# Altium footprint library SOIC.PcbLib: 4 footprints
Each footprint in its own frame and in the unit in brackets; x right, y up, seen from the top. Pads: shape width x height; smd on the part's side, far side on the other; paste and mask are expansions set on the pad; w line width, h text height; cw(c..) or ccw(c..) is an arc to the next point about the centre after c.
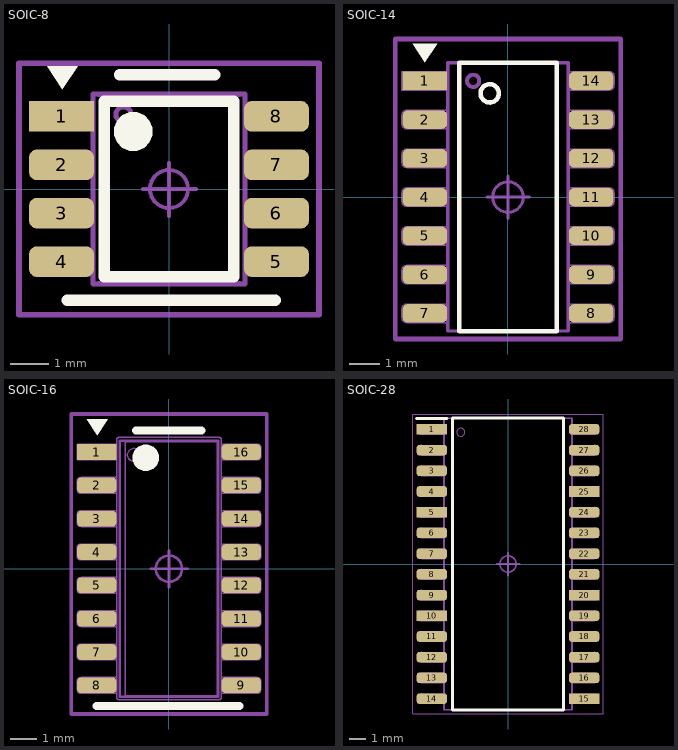
[diagram p0: the footprints below, top view; thin cyan lines are the x and y axes]

## SOIC-8 [mm]
pads (8):
  rect 1.7x0.8 smd: 1(-2.821,1.905)
  rrect50% 1.7x0.8 smd: 2(-2.821,0.635) 3(-2.821,-0.635) 4(-2.821,-1.905) 5(2.821,-1.905) 6(2.821,-0.635) 7(2.821,0.635) 8(2.821,1.905)
Top Overlay:
  region: -1.438,1.509 -1.438,1.409 -1.362,1.225 -1.221,1.085 -1.038,1.009 -0.938,1.009 -0.839,1.009 -0.655,1.085 -0.514,1.225 -0.438,1.409 -0.438,1.509 -0.438,1.608 -0.514,1.792 -0.655,1.933 -0.839,2.009 -0.938,2.009 -1.038,2.009 -1.221,1.933 -1.362,1.792 -1.438,1.608
  region: -2.399,3.222 -3.199,3.222 -2.799,2.622
  lines w0.3: -2.667,-2.921 2.794,-2.921 ; -1.3,3 1.2,3 ; -1.7,-2.3 1.7,-2.3 1.7,2.3 -1.7,2.3 -1.7,-2.3
Top Assembly:
  circle w0.127: c-1.194,1.956 r0.2
  lines w0.05: -2.078,1.605 -3.571,1.605 -3.571,2.205 -2.078,2.205 ; -2.071,-2.205 -3.421,-2.205 cw(c-3.421,-2.055) -3.571,-2.055 -3.571,-1.755 cw(c-3.421,-1.755) -3.421,-1.605 -2.071,-1.605 ; -2.071,-2.117 -2.271,-2.117 -2.471,-2.117 ; -2.071,-1.693 -2.271,-1.693 -2.471,-1.693 ; -2.071,-0.935 -3.421,-0.935 cw(c-3.421,-0.785) -3.571,-0.785 -3.571,-0.485 cw(c-3.421,-0.485) -3.421,-0.335 -2.071,-0.335 ; -2.071,-0.847 -2.271,-0.847 -2.471,-0.847 ; -2.071,-0.423 -2.271,-0.423 -2.471,-0.423 ; -2.071,0.335 -3.421,0.335 cw(c-3.421,0.485) -3.571,0.485 -3.571,0.785 cw(c-3.421,0.785) -3.421,0.935 -2.071,0.935 ; -2.071,0.423 -2.271,0.423 -2.471,0.423 ; -2.071,0.847 -2.271,0.847 -2.471,0.847 ; -2.071,1.693 -2.271,1.693 -2.471,1.693 ; -2.071,2.117 -2.271,2.117 -2.471,2.117 ; 2.071,-2.205 3.421,-2.205 ccw(c3.421,-2.055) 3.571,-2.055 3.571,-1.755 ccw(c3.421,-1.755) 3.421,-1.605 2.071,-1.605 ; 2.071,-2.117 2.271,-2.117 2.471,-2.117 ; 2.071,-1.693 2.271,-1.693 2.471,-1.693 ; 2.071,-0.935 3.421,-0.935 ccw(c3.421,-0.785) 3.571,-0.785 3.571,-0.485 ccw(c3.421,-0.485) 3.421,-0.335 2.071,-0.335 ; 2.071,-0.847 2.271,-0.847 2.471,-0.847 ; 2.071,-0.423 2.271,-0.423 2.471,-0.423 ; 2.071,0.335 3.421,0.335 ccw(c3.421,0.485) 3.571,0.485 3.571,0.785 ccw(c3.421,0.785) 3.421,0.935 2.071,0.935 ; 2.071,0.423 2.271,0.423 2.471,0.423 ; 2.071,0.847 2.271,0.847 2.471,0.847 ; 2.071,1.605 3.421,1.605 ccw(c3.421,1.755) 3.571,1.755 3.571,2.055 ccw(c3.421,2.055) 3.421,2.205 2.071,2.205 ; 2.071,1.693 2.271,1.693 2.471,1.693 ; 2.071,2.117 2.271,2.117 2.471,2.117 ; -2.571,1.693 -3.071,1.693 -3.071,2.117 -2.571,2.117 -2.471,2.117 ; -2.571,1.693 -2.471,1.693 ; -2.571,1.693 -2.471,1.693 ; -2.471,-2.117 -2.471,-1.693 ; -2.471,-2.117 -2.571,-2.117 -3.071,-2.117 -3.071,-1.693 -2.571,-1.693 -2.471,-1.693 ; -2.471,-0.847 -2.471,-0.423 ; -2.471,-0.847 -2.571,-0.847 -3.071,-0.847 -3.071,-0.423 -2.571,-0.423 -2.471,-0.423 ; -2.471,0.423 -2.471,0.847 ; -2.471,0.423 -2.571,0.423 -3.071,0.423 -3.071,0.847 -2.571,0.847 -2.471,0.847 ; -2.471,1.693 -2.471,2.117 ; 2.471,-2.117 2.471,-1.693 ; 2.471,-2.117 2.571,-2.117 3.071,-2.117 3.071,-1.693 2.571,-1.693 2.471,-1.693 ; 2.471,-0.847 2.471,-0.423 ; 2.471,-0.847 2.571,-0.847 3.071,-0.847 3.071,-0.423 2.571,-0.423 2.471,-0.423 ; 2.471,0.423 2.471,0.847 ; 2.471,0.423 2.571,0.423 3.071,0.423 3.071,0.847 2.571,0.847 2.471,0.847 ; 2.471,1.693 2.471,2.117 ; 2.471,1.693 2.571,1.693 3.071,1.693 3.071,2.117 2.571,2.117 2.471,2.117
  lines w0.127: -1.994,-2.502 1.994,-2.502 ; -1.994,-2.502 -1.994,2.502 ; -1.994,-2.502 -1.74,-2.451 ; -1.994,2.502 1.994,2.502 ; -1.994,2.502 -1.74,2.451 ; -1.74,-2.451 1.74,-2.451 ; -1.74,-2.451 -1.74,2.451 ; -1.74,2.451 1.74,2.451 ; 1.74,-2.451 1.74,2.451 ; 1.74,-2.451 1.994,-2.502 ; 1.74,2.451 1.994,2.502 ; 1.994,-2.502 1.994,2.502
Top Designator:
  text ".Designator" at -1.9,-0.3 h1
Top Component Outline:
  lines w0.152: -3.937,-3.302 3.937,-3.302 3.937,3.302 -3.937,3.302 -3.937,-3.302
Top Component Center:
  circle w0.1: c0,0 r0.5
  lines w0.1: -0.686,0 0.711,0 ; -0.001,-0.706 -0.001,0.691
3D body "SOIC-8.stp": height 1.76, standoff 0, extent -3.499,-2.502 3.499,2.502

## SOIC-14 [mm]
pads (14):
  rect 1.45x0.6 smd: 1(-2.725,3.81)
  rrect50% 1.45x0.6 smd: 2(-2.725,2.54) 3(-2.725,1.27) 4(-2.725,0) 5(-2.725,-1.27) 6(-2.725,-2.54) 7(-2.725,-3.81) 8(2.725,-3.81) 9(2.725,-2.54) 10(2.725,-1.27) 11(2.725,0) 12(2.725,1.27) 13(2.725,2.54) 14(2.725,3.81)
Top Overlay:
  circle w0.15: c-0.6,3.4 r0.3
  region: -2.323,5.025 -3.123,5.025 -2.723,4.425
  lines w0.15: -1.6,-4.4 1.6,-4.4 1.6,4.4 -1.6,4.4 -1.6,-4.4
Top Assembly:
  drawing of 214 lines, arcs and shapes, not listed
Top Designator:
  text ".Designator" at -1.9,-0.3 h1
Top Component Outline:
  lines w0.15: -3.7,-4.65 -3.7,5.182 3.7,5.182 3.7,-4.65 -3.7,-4.65
Top Component Center:
  circle w0.1: c0,0 r0.5
  lines w0.1: -0.686,0 0.711,0 ; -0.001,-0.706 -0.001,0.691
3D body "SO-14N.step": height 1.75, standoff 0, extent -3,-4.4 3,4.4

## SOIC-16 [mm] "SOIC, 16-Leads, Body 9,90x3,90mm, Pitch 1,27mm, IPC Medium Density"
height 1.26
pads (16):
  rect 1.5x0.6 smd: 1(-2.75,4.445)
  rrect50% 1.5x0.6 smd: 2(-2.75,3.175) 3(-2.75,1.905) 4(-2.75,0.635) 5(-2.75,-0.635) 6(-2.75,-1.905) 7(-2.75,-3.175) 8(-2.75,-4.445) 9(2.75,-4.445) 10(2.75,-3.175) 11(2.75,-1.905) 12(2.75,-0.635) 13(2.75,0.635) 14(2.75,1.905) 15(2.75,3.175) 16(2.75,4.445)
Top Overlay:
  region: -2.34,5.685 -3.14,5.685 -2.74,5.085
  region: -1.387,4.226 -1.387,4.127 -1.311,3.943 -1.17,3.803 -0.987,3.726 -0.887,3.726 -0.788,3.726 -0.604,3.803 -0.463,3.943 -0.387,4.127 -0.387,4.226 -0.387,4.326 -0.463,4.51 -0.604,4.65 -0.788,4.726 -0.887,4.726 -0.987,4.726 -1.17,4.65 -1.311,4.51 -1.387,4.326
  lines w0.3: -2.769,-5.232 2.692,-5.232 ; -1.255,5.258 1.245,5.258
Top Assembly:
  drawing of 827 lines, arcs and shapes, not listed
Top Designator:
  text ".Designator" at -1.9,-0.3 h1
Top Component Outline:
  lines w0.15: -3.725,-5.537 -3.725,5.893 3.725,5.893 3.725,-5.537 -3.725,-5.537
Top Component Center:
  circle w0.1: c0,0 r0.5
  lines w0.1: -0.686,0 0.711,0 ; -0.001,-0.706 -0.001,0.691
3D body "SO-16.step": height 1.75, standoff 0, extent -3,-5 3,5

## SOIC-28 [mm]
pads (28):
  rect 1.85x0.65 smd: 1(-4.675,8.255) 5(-4.675,3.175) 10(-4.675,-3.175) 15(4.675,-8.255) 20(4.675,-1.905) 25(4.675,4.445)
  rrect50% 1.85x0.65 smd: 2(-4.675,6.985) 3(-4.675,5.715) 4(-4.675,4.445) 6(-4.675,1.905) 7(-4.675,0.635) 8(-4.675,-0.635) 9(-4.675,-1.905) 11(-4.675,-4.445) 12(-4.675,-5.715) 13(-4.675,-6.985) 14(-4.675,-8.255) 16(4.675,-6.985) 17(4.675,-5.715) 18(4.675,-4.445) 19(4.675,-3.175) 21(4.675,-0.635) 22(4.675,0.635) 23(4.675,1.905) 24(4.675,3.175) 26(4.675,5.715) 27(4.675,6.985) 28(4.675,8.255)
Top Overlay:
  lines w0.2: -5.6,8.93 -3.75,8.93 ; -3.4,-8.95 -3.4,8.95 3.4,8.95 3.4,-8.95 -3.4,-8.95
Top Assembly:
  drawing of 406 lines, arcs and shapes, not listed
Top Designator:
  text ".Designator" at -1.9,-0.3 h1
Top Component Outline:
  lines w0.05: -5.85,-9.2 5.85,-9.2 5.85,9.2 -5.85,9.2 -5.85,-9.2
Top Component Center:
  circle w0.1: c0,0 r0.5
  lines w0.1: -0.686,0 0.711,0 ; -0.001,-0.706 -0.001,0.691
3D body "SOIC-28.stp": height 2.65, standoff 0, extent -5.15,-8.95 5.15,8.95